# Altium footprint library WPME-FIMM.PcbLib: 1 footprints
Each footprint in its own frame and in the unit in brackets; x right, y up, seen from the top. Pads: shape width x height; smd on the part's side, far side on the other; paste and mask are expansions set on the pad; w line width, h text height; cw(c..) or ccw(c..) is an arc to the next point about the centre after c.
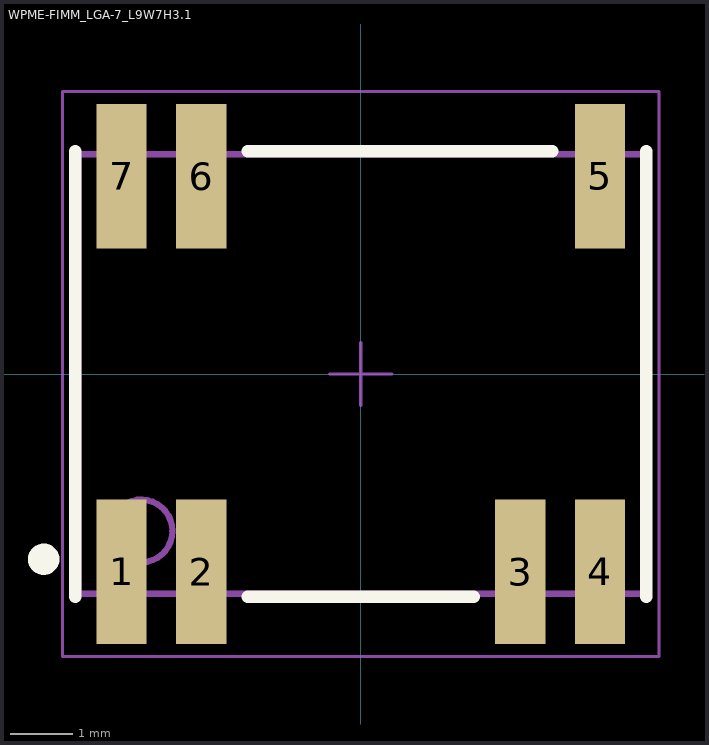
[diagram p0: the footprint, top view; thin cyan lines are the x and y axes]

## WPME-FIMM_LGA-7_L9W7H3.1 [mm] "Power Module, SMT, body 9.00x7.00mm"
height 3.2
pads (7):
  rect 0.8x2.3 smd: 1(-3.81,-3.15) 2(-2.54,-3.15) 3(2.54,-3.15) 4(3.81,-3.15) 5(3.81,3.15) 6(-2.54,3.15) 7(-3.81,3.15)
Top Overlay:
  circle w0.25: c-5.05,-2.95 r0.125
  lines w0.2: -4.55,-3.55 -4.55,3.55 ; -1.8,-3.55 1.8,-3.55 ; -1.8,3.55 3.05,3.55 ; 4.55,-3.55 4.55,3.55
Top Designator:
  text ".Designator" at -7.498,-0.5 h1.5
Top Component Outline:
  circle w0.1: c-3.5,-2.5 r0.5
  lines w0.1: -4.5,-3.5 -4.5,3.5 4.5,3.5 4.5,-3.5 -4.5,-3.5
Top 3D Body:
  circle w0.1: c-3.5,-2.5 r0.5
  lines w0.1: -4.5,-3.5 -4.5,3.5 4.5,3.5 4.5,-3.5 -4.5,-3.5
Top Courtyard:
  lines w0.05: -0.5,0 0.5,0 ; 0,-0.5 0,0.5 ; -4.75,-4.5 -4.75,4.5 4.75,4.5 4.75,-4.5 -4.75,-4.5
3D body "1769205132.stp": height 3.1, standoff 0, extent -4.5,-3.5 4.5,3.5